# Altium footprint library PcbLib_cirucit_de_puissance.PcbLib: 10 footprints
Each footprint in its own frame and in the unit in brackets; x right, y up, seen from the top. Pads: shape width x height; smd on the part's side, far side on the other; paste and mask are expansions set on the pad; w line width, h text height; cw(c..) or ccw(c..) is an arc to the next point about the centre after c.
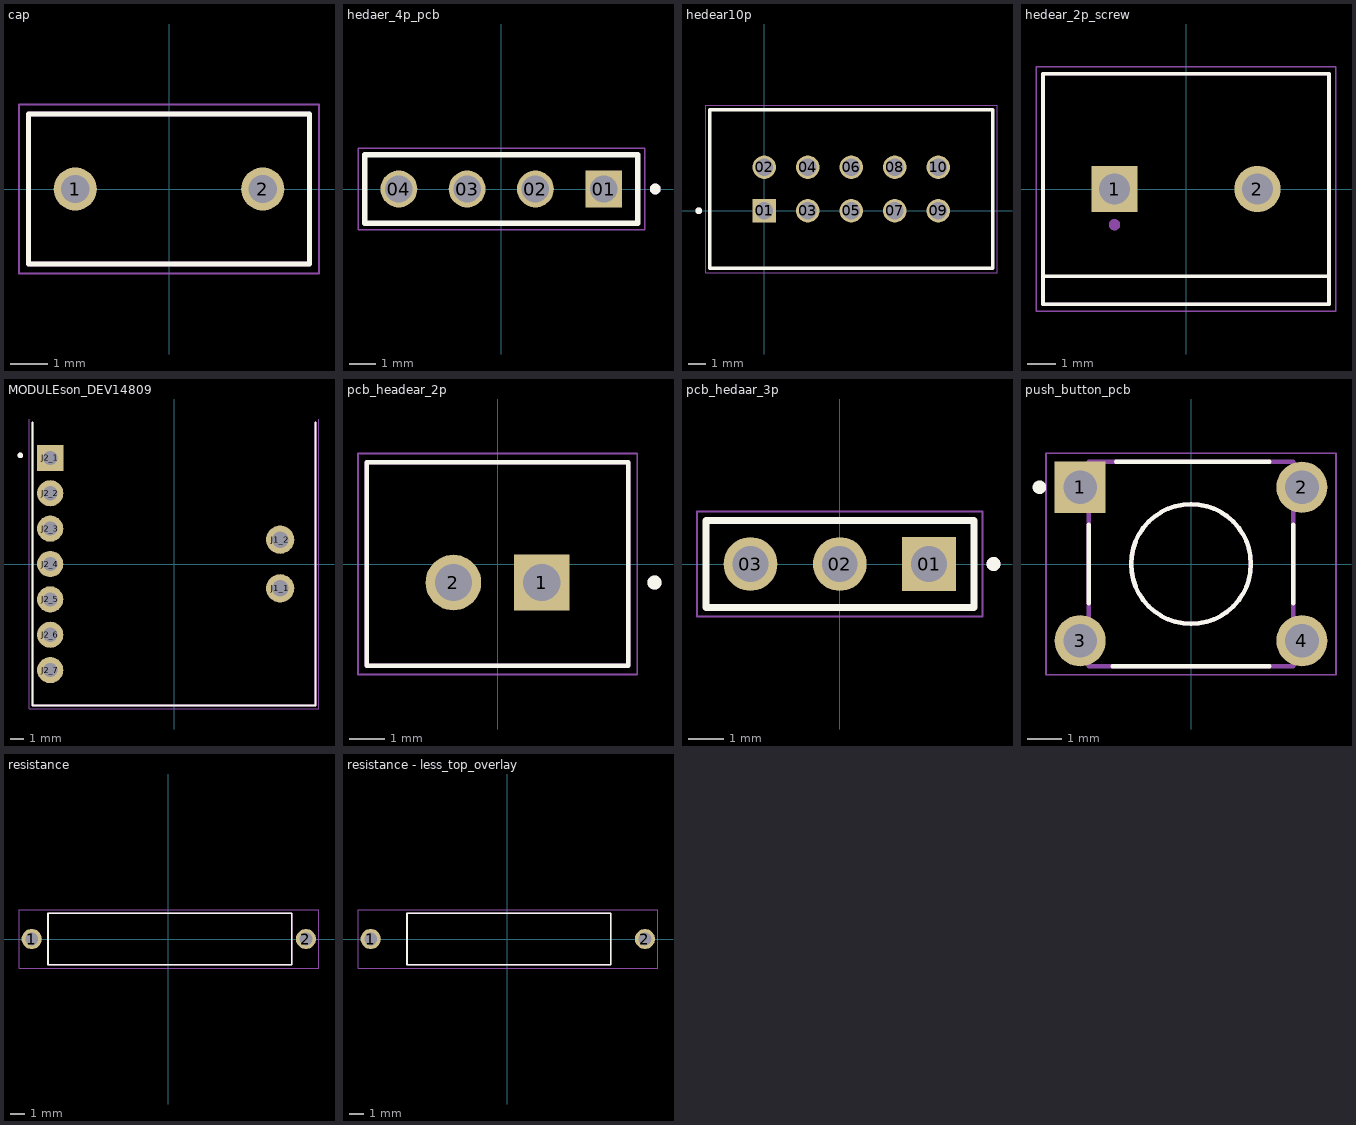
[diagram p0: the footprints below, top view; thin cyan lines are the x and y axes]

## cap [mm]
pads (2):
  round 1.15 hole 0.75: 1(-2.5,0) 2(2.5,0)
Top Overlay:
  lines w0.127: -3.75,-2 3.75,-2 3.75,2 -3.75,2 -3.75,-2
Mechanical 13:
  lines w0.127: -3.75,-2 -3.75,2 3.75,2 3.75,-2 -3.75,-2
Mechanical 15:
  lines w0.05: -4,-2.25 -4,2.25 4,2.25 4,-2.25 -4,-2.25
3D body "RDER73A104K5E1H03A.STEP": height 23.5, standoff -9.5, extent -3.75,-2 3.75,2

## hedaer_4p_pcb [mm]
pads (4):
  rect 1.37x1.37 / inner round 1.37 / far side rect 1.37x1.37 hole 1.02: 01(3.81,0)
  round 1.37 hole 1.02: 02(1.27,0) 03(-1.27,0) 04(-3.81,0)
Top Overlay:
  circle w0.2: c5.73,0 r0.1
  lines w0.2: -5.08,-1.27 -5.08,1.27 5.08,1.27 5.08,-1.27 -5.08,-1.27
Mechanical 13:
  circle w0.2: c5.73,0 r0.1
  lines w0.1: -5.08,-1.27 -5.08,1.27 ; -5.08,-1.27 5.08,-1.27 ; -5.08,-1.27 -5.08,1.27 ; -5.08,1.27 5.08,1.27 ; -5.08,1.27 5.08,1.27 ; 5.08,-1.27 5.08,1.27 ; 5.08,-1.27 5.08,1.27
Mechanical 15:
  lines w0.05: -5.33,-1.52 -5.33,1.52 5.33,1.52 5.33,-1.52 -5.33,-1.52
3D body "MTLW-104-05-G-S-185.stp": height 6.22, standoff -2.29, extent -5.08,-1.27 5.08,1.219

## hedear10p [mm]
pads (10):
  rect 1.37x1.37 hole 1.02: 01(0,0)
  round 1.37 hole 1.02: 02(0,2.54) 03(2.54,0) 04(2.54,2.54) 05(5.08,0) 06(5.08,2.54) 07(7.62,0) 08(7.62,2.54) 09(10.16,0) 10(10.16,2.54)
Top Overlay:
  circle w0.2: c-3.825,0 r0.1
  lines w0.2: -3.175,-3.365 -3.175,5.905 13.335,5.905 13.335,-3.365 -3.175,-3.365
Mechanical 13:
  circle w0.2: c-3.825,0 r0.1
  lines w0.1: -3.175,-3.365 -3.175,5.905 13.335,5.905 13.335,-3.365 -3.175,-3.365
Mechanical 15:
  lines w0.05: -3.425,-3.615 -3.425,6.155 13.585,6.155 13.585,-3.615 -3.425,-3.615
3D body "TSS-105-02-L-D.stp": height 8.89, standoff -4.57, extent -3.048,-3.175 13.462,6.096

## hedear_2p_screw [mm]
pads (2):
  rect 1.65x1.65 / inner round 1.65 / far side rect 1.65x1.65 hole 1.1: 1(-2.54,0)
  round 1.65 hole 1.1: 2(2.54,0)
Top Overlay:
  lines w0.127: -5.08,-3.1 -5.08,-4.1 5.08,-4.1 5.08,-3.1 ; -5.08,-3.1 -5.08,4.1 5.08,4.1 5.08,-3.1 ; -5.08,-3.1 5.08,-3.1
Mechanical 13:
  circle w0.2: c-2.54,-1.27 r0.1
  lines w0.127: -5.08,-4.1 5.08,-4.1 5.08,4.1 -5.08,4.1 -5.08,-4.1
Mechanical 15:
  lines w0.05: -5.33,-4.35 5.33,-4.35 5.33,4.35 -5.33,4.35 -5.33,-4.35
3D body "step_temp.STEP": height 10, standoff -3.5, extent -5.68,-4.1 5.08,4.1

## MODULEson_DEV14809 [mil]
pads (9):
  round 80 hole 47.24: J1_1(300,-68.9) J1_2(300,68.9)
  rect 74x74 / inner round 74 / far side rect 74x74 hole 40: J2_1(-350,300)
  round 74 hole 40: J2_2(-350,200) J2_3(-350,100) J2_4(-350,0) J2_5(-350,-100) J2_6(-350,-200) J2_7(-350,-300)
Top Overlay:
  circle w7.87: c-434.25,307.09 r3.94
  lines w5: -400,400 -400,-400 400,-400 400,400
Mechanical 13:
  circle w7.87: c-434.25,307.09 r3.94
  lines w5: -400,400 -400,-400 400,-400 400,400
Mechanical 15:
  lines w1.97: -409.84,409.84 -409.84,-409.84 409.84,-409.84 409.84,409.84

## pcb_headear_2p [mm]
height 7
pads (2):
  rect 1.575x1.575 / inner round 1.575 / far side rect 1.575x1.575 hole 1.05: 1(1.25,-0.525)
  round 1.575 hole 1.05: 2(-1.25,-0.525)
Top Overlay:
  circle w0.2: c4.44,-0.525 r0.1
  lines w0.127: -3.7,-2.875 -3.7,2.875 3.7,2.875 3.7,-2.875 -3.7,-2.875
Mechanical 13:
  circle w0.2: c4.44,-0.525 r0.1
  lines w0.127: -3.7,-2.875 -3.7,2.875 3.7,2.875 3.7,-2.875 -3.7,-2.875
Mechanical 15:
  lines w0.05: -3.95,-3.125 3.95,-3.125 3.95,3.125 -3.95,3.125 -3.95,-3.125
3D body "B2B-XH-A--3DModel-STEP-56544.STEP": height 7, standoff -3.4, extent -3.573,-2.875 3.827,2.875

## pcb_hedaar_3p [mm]
pads (3):
  rect 1.53x1.53 hole 1.02: 01(2.54,0)
  round 1.53 hole 1.02: 02(0,0) 03(-2.54,0)
Top Overlay:
  circle w0.2: c4.37,0 r0.1
  lines w0.2: -3.81,-1.24 -3.81,1.24 3.81,1.24 3.81,-1.24 -3.81,-1.24
Mechanical 13:
  circle w0.2: c4.37,0 r0.1
  lines w0.1: -3.81,-1.24 3.81,-1.24 3.81,1.24 -3.81,1.24 -3.81,-1.24
Mechanical 15:
  lines w0.05: -4.06,-1.49 4.06,-1.49 4.06,1.49 -4.06,1.49 -4.06,-1.49
3D body "HMTSW-103-10-T-S-330.stp": height 10.92, standoff -10.16, extent -3.81,-1.245 3.81,1.245

## push_button_pcb [mm]
pads (4):
  rect 1.498x1.498 / inner round 1.498 / far side rect 1.498x1.498 hole 0.99: 1(-3.25,2.25)
  round 1.498 hole 0.99: 2(3.25,2.25) 3(-3.25,-2.25) 4(3.25,-2.25)
Top Overlay:
  circle w0.127: c0,0 r1.755
  circle w0.2: c-4.445,2.25 r0.1
  lines w0.127: -2.995,-1.15 -2.995,1.15 ; -2.3,-2.995 2.3,-2.995 ; -2.2,2.995 2.3,2.995 ; 3,-1.15 3,1.15
Mechanical 13:
  circle w0.127: c0,0 r1.755
  lines w0.127: -2.995,-2.995 -2.995,2.995 2.995,2.995 2.995,-2.995 -2.995,-2.995
Mechanical 15:
  lines w0.05: -4.25,-3.25 -4.25,3.25 4.25,3.25 4.25,-3.25 -4.25,-3.25
3D body "step_temp.STEP": height 5.01, standoff -3.51, extent -3.898,-2.995 3.9,2.995

## resistance [mm]
height 3.8
pads (2):
  round 1.408 hole 0.9: 1(-9.525,0) 2(9.632,0)
Top Overlay:
  lines w0.127: -8.382,-1.8 8.636,-1.8 8.636,1.8 -8.382,1.8 -8.382,-1.8
Mechanical 13:
  lines w0.127: -8.382,-1.8 8.636,-1.8 8.636,1.8 -8.382,1.8 -8.382,-1.8
Mechanical 15:
  lines w0.05: -10.414,-2.05 10.541,-2.05 10.541,2.05 -10.414,2.05 -10.414,-2.05
3D body "CF14JT1M00.STEP": height 2.3, standoff -20.65, extent -9.765,-1.15 9.765,1.15

## resistance - less_top_overlay [mm]
height 3.8
pads (2):
  round 1.408 hole 0.9: 1(-9.525,0) 2(9.632,0)
Top Overlay:
  lines w0.127: -6.985,-1.8 -6.985,1.8 7.239,1.8 7.239,-1.8 -6.985,-1.8
Mechanical 13:
  lines w0.127: -6.985,-1.8 -6.985,1.8 7.239,1.8 7.239,0.9 7.239,-0.9 7.239,-1.8 -6.985,-1.8
Mechanical 15:
  lines w0.05: -10.414,-2.05 -10.414,2.05 10.541,2.05 10.541,-2.05 -10.414,-2.05
3D body "CF14JT1M00.STEP": height 2.3, standoff -20.65, extent -9.765,-1.15 9.765,1.15